# Altium footprint library VEMD5080X01.PcbLib: 1 footprints
Each footprint in its own frame and in the unit in brackets; x right, y up, seen from the top. Pads: shape width x height; smd on the part's side, far side on the other; paste and mask are expansions set on the pad; w line width, h text height; cw(c..) or ccw(c..) is an arc to the next point about the centre after c.
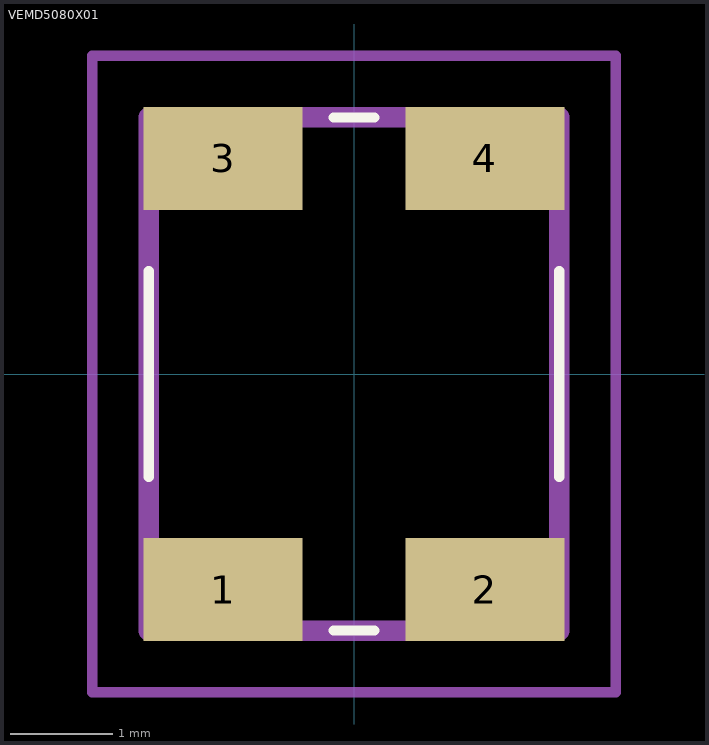
[diagram p0: the footprint, top view; thin cyan lines are the x and y axes]

## VEMD5080X01 [mm]
pads (4):
  rect 1.55x1 smd: 1(-1.275,-2.1) 2(1.275,-2.1) 3(-1.275,2.1) 4(1.275,2.1)
Top Overlay:
  lines w0.1: -2,-1 -2,1 ; -0.2,-2.5 0.2,-2.5 ; -0.2,2.5 0.2,2.5 ; 2,-1 2,1
Mechanical 15:
  lines w0.2: -2,-2.5 2,-2.5 2,2.5 -2,2.5 -2,-2.5
Mechanical 20:
  lines w0.1: -2.55,-3.1 2.55,-3.1 2.55,3.1 -2.55,3.1 -2.55,-3.1